# Altium schematic symbol library FuelLevelSensor.SchLib: 9 symbols
Pins are listed as number, name and electrical type; pins without a type are passive.

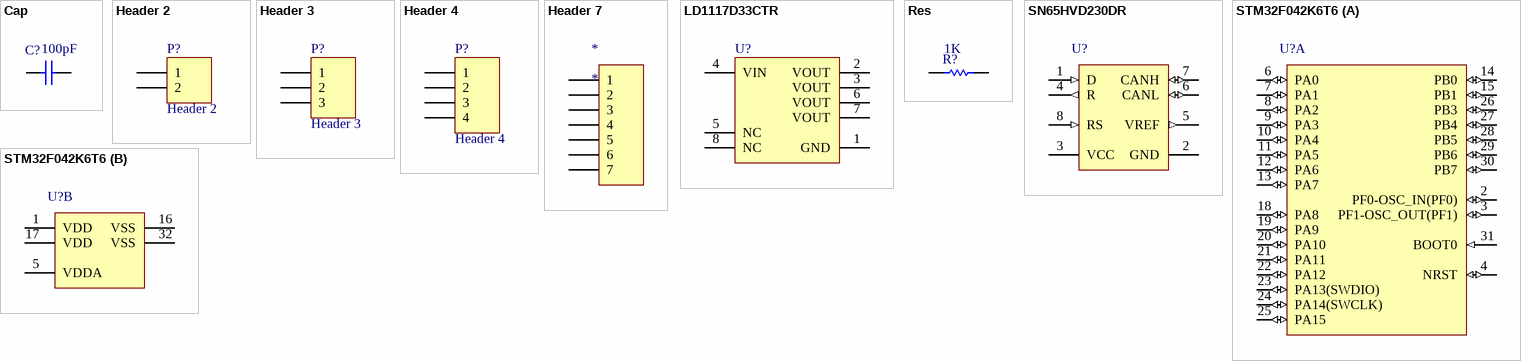
[diagram p0: symbols Cap to STM32F042K6T6]

## Cap
designator C?  value 100pF  (hidden comment: Cap)
Capacitor; Supplier Part Number: *; Supplier: *; Manufacutrer: *
simulation model CAP (Capacitor)
signal-integrity model Cap
footprint CAP_0805_IPC_MD (Chip Capacitor, 2-Leads, 0805, SAMSUNG, IPC Medium Density)
pins: 1, 2

## Header 2
designator P?
Header, 2-Pin; Supplier: *; Supplier Part Number: *; Manufacturer: *
footprint HDR1X2 (Connector; Header; 2 Position)
signal-integrity model Connector
footprint HDR_1x2_3_94_LOCKING
pins: 1, 2

## Header 3
designator P?
Header, 3-Pin; Supplier: *; Manufacturer: *; Supplier Part Number: *
footprint HDR1X3 (Connector; Header; 3 Position)
signal-integrity model Connector
footprint HDR_1x3_3_94_LOCKING
pins: 1, 2, 3

## Header 4
designator P?
Header, 4-Pin; Supplier: *; Supplier Part Number: *; Manufacturer: *
footprint HDR1X4 (Connector; Header; 4 Position)
signal-integrity model Connector
footprint HDR_1x4_3_94_LOCKING
pins: 1, 2, 3, 4

## Header 7
designator *
footprint HDR1X7
pins: 1, 2, 3, 4, 5, 6, 7

## LD1117D33CTR
designator U?
Fixed Low Drop Positive Voltage Regulator, 3.3V, 8-Pin SO, Tape and Reel; PartNumber: LD1117D33CTR; DatasheetVersion: Nov-2011; PackageVersion: Dec-2002; PackageReference: SO8; PackageDescription: 8-Pin Small Outline Integrated Circuit 1.27 mm Pitch; Code_JEDEC: MS-012-AA; Code_IPC: SOIC127P600-8; ComponentLink1Description: Manufacturer URL; ComponentLink1URL: http://www.st.com; ComponentLink2Description: Datasheet; ComponentLink2URL: http://www.st.com/internet/com/TECHNICAL_RESOURCES/TECHNICAL_LITERATURE/DATASHEET/CD00000544.pdf; ComponentLink3Description: Package Specification; ComponentLink3URL: http://www.st.com/internet/com/TECHNICAL_RESOURCES/TECHNICAL_LITERATURE/PACKAGE_INFORMATION/CD00004680.pdf
footprint SOIC_8_IPC_MD (SOIC, 8-Leads, Pitch 1,27mm, IPC Medium Density)
pins: 1 GND (power), 2 VOUT (power), 3 VOUT (power), 4 VIN (power), 5 NC, 6 VOUT (power), 7 VOUT (power), 8 NC

## Res
designator R?  value 1K  (hidden comment: Res)
Resistor; Supplier: *; Supplier Part Number: *; Manufacturer: *
simulation model RESISTOR (Resistor)
signal-integrity model Res
footprint RES_0805_IPC_MD (Chip Resistor, 2-Leads, 0805, Royal Ohm, IPC Medium Density)
pins: 1, 2

## SN65HVD230DR
designator U?
3.3V CAN Transceiver with Standby Mode, 17 mA, -40 to 85 degC, 8-pin SOIC (D), Green (RoHS & no Sb/Br); Manufacturer: Texas Instruments; Supplier: *; Supplier Part Number: *
footprint SOIC_8_IPC_MD (SOIC, 8-Leads, Pitch 1,27mm, IPC Medium Density)
pins: 1 D (in) "Driver input", 2 GND (power) "Ground", 3 VCC (power) "Supply voltage", 4 R (out) "Receiver output", 5 VREF (out) "Reference output", 6 CANL (io) "Low bus output", 7 CANH (io) "High bus output", 8 RS (in) "Standby/slope control"

## STM32F042K6T6
designator U?
ARM Cortex-M0 32-bit MCU, 32 KB Flash, 6 KB Internal RAM, 26 I/Os, 32-pin LQFP, -40 to 85 degC, Tray; PartNumber: STM32F042K6T6; FLASH Size (Prog) (kB): 32; I/Os (High Current): 26; Internal RAM Size (kB): 4; Operating Frequency(F) (Processor speed) (MHz): 48; Supply Voltage(Vcc) min (V): 2.4; DatasheetVersion: Rev. 1; PackageVersion: Rev. 1, 07/2013; PackageReference: LQFP32; PackageDescription: 32-Pin Low Profile Quad Flat Package, 7 x 7 mm Body, 0.8 mm Pitch; Supplier 1: Digi-Key; Supplier Part Number 1: 497-14046-ND; Supplier 2: Newark; Supplier Part Number 2: 19X6194; Supplier 3: Mouser; Supplier Part Number 3: 511-STM32F030K6T6; Core: ARM Cortex-M0; Packing: Tray; Mounting Technology: Surface Mount; ComponentLink1Description: Manufacturer URL; ComponentLink1URL: http://www.st.com/web/en/home.html; ComponentLink2Description: Datasheet; ComponentLink2URL: http://www.st.com/st-web-ui/static/active/en/resource/technical/document/datasheet/DM00088500.pdf; ComponentLink3Description: Package Specification; ComponentLink3URL: http://www.st.com/st-web-ui/static/active/en/resource/technical/document/datasheet/DM00088500.pdf
footprint LQFP32_IPS_MD (LQFP, 32-Leads, Body 7,00x7,00mm, Pitch 0,80mm, IPC Medium Density)
part A pins: 2 PF0-OSC_IN(PF0) (io) "PF0-OSC_IN(PF0)/OSC_IN", 3 PF1-OSC_OUT(PF1) (io) "PF1-OSC_OUT(PF1)/OSC_OUT", 4 NRST (io) "Device reset input / internal reset output (active low)", 6 PA0 (io) "PA0/USART1_CTS/ADC_IN0,RTC_TAMP2,WKUP1", 7 PA1 (io) "PA1/USART1_RTS,EVENTOUT/ADC_IN1", 8 PA2 (io) "PA2/USART1_TX/ADC_IN2", 9 PA3 (io) "PA3/USART1_RX/ADC_IN3", 10 PA4 (io) "PA4/SPI1_NSS,USART1_CK,TIM14_CH1/ADC_IN4", 11 PA5 (io) "PA5/SPI1_SCK/ADC_IN5", 12 PA6 (io) "PA6/SPI1_MISO,TIM3_CH1,TIM1_BKIN,TIM16_CH1,EVENTOUT/ADC_IN6", 13 PA7 (io) "PA7/SPI1_MOSI,TIM3_CH2,TIM14_CH1,TIM1_CH1N,TIM17_CH1,EVENTOUT/ADC_IN7", 14 PB0 (io) "PB0/TIM3_CH3,TIM1_CH2N,EVENTOUT/ADC_IN8", 15 PB1 (io) "PB1/TIM3_CH4,TIM14_CH1,TIM1_CH3N/ADC_IN9", 18 PA8 (io) "PA8/USART1_CK,TIM1_CH1,EVENTOUT,MCO", 19 PA9 (io) "PA9/USART1_TX,TIM1_CH2,I2C1_SCL", 20 PA10 (io) "PA10/USART1_RX,TIM1_CH3,TIM17_BKIN,I2C1_SDA", 21 PA11 (io) "PA11/USART1_CTS,TIM1_CH4,EVENTOUT", 22 PA12 (io) "PA12/USART1_RTS,TIM1_ETR,EVENTOUT", 23 PA13(SWDIO) (io) "PA13(SWDIO)/IR_OUT,SWDIO", 24 PA14(SWCLK) (io) "PA14(SWCLK)/USART1_TX,SWCLK", 25 PA15 (io) "PA15/SPI1_NSS,USART1_RX,EVENTOUT", 26 PB3 (io) "PB3/SPI1_SCK,EVENTOUT", 27 PB4 (io) "PB4/SPI1_MISO,TIM3_CH1,EVENTOUT", 28 PB5 (io) "PB5/SPI1_MOSI,I2C1_SMBA,TIM16_BKIN,TIM3_CH2", 29 PB6 (io) "PB6/I2C1_SCL,USART1_TX,TIM16_CH1N", 30 PB7 (io) "PB7/I2C1_SDA,USART1_RX,TIM17_CH1N", 31 BOOT0 (in) "Boot memory selection"
part B pins: 1 VDD (power) "Digital power supply", 5 VDDA (power) "Analog power supply", 16 VSS (power) "Ground", 17 VDD (power) "Digital power supply", 32 VSS (power) "Ground"